# Altium footprint library Fuse.PcbLib: 123 footprints (part 8 of 8)
Each footprint in its own frame and in the unit in brackets; x right, y up, seen from the top. Pads: shape width x height; smd on the part's side, far side on the other; paste and mask are expansions set on the pad; w line width, h text height; cw(c..) or ccw(c..) is an arc to the next point about the centre after c.
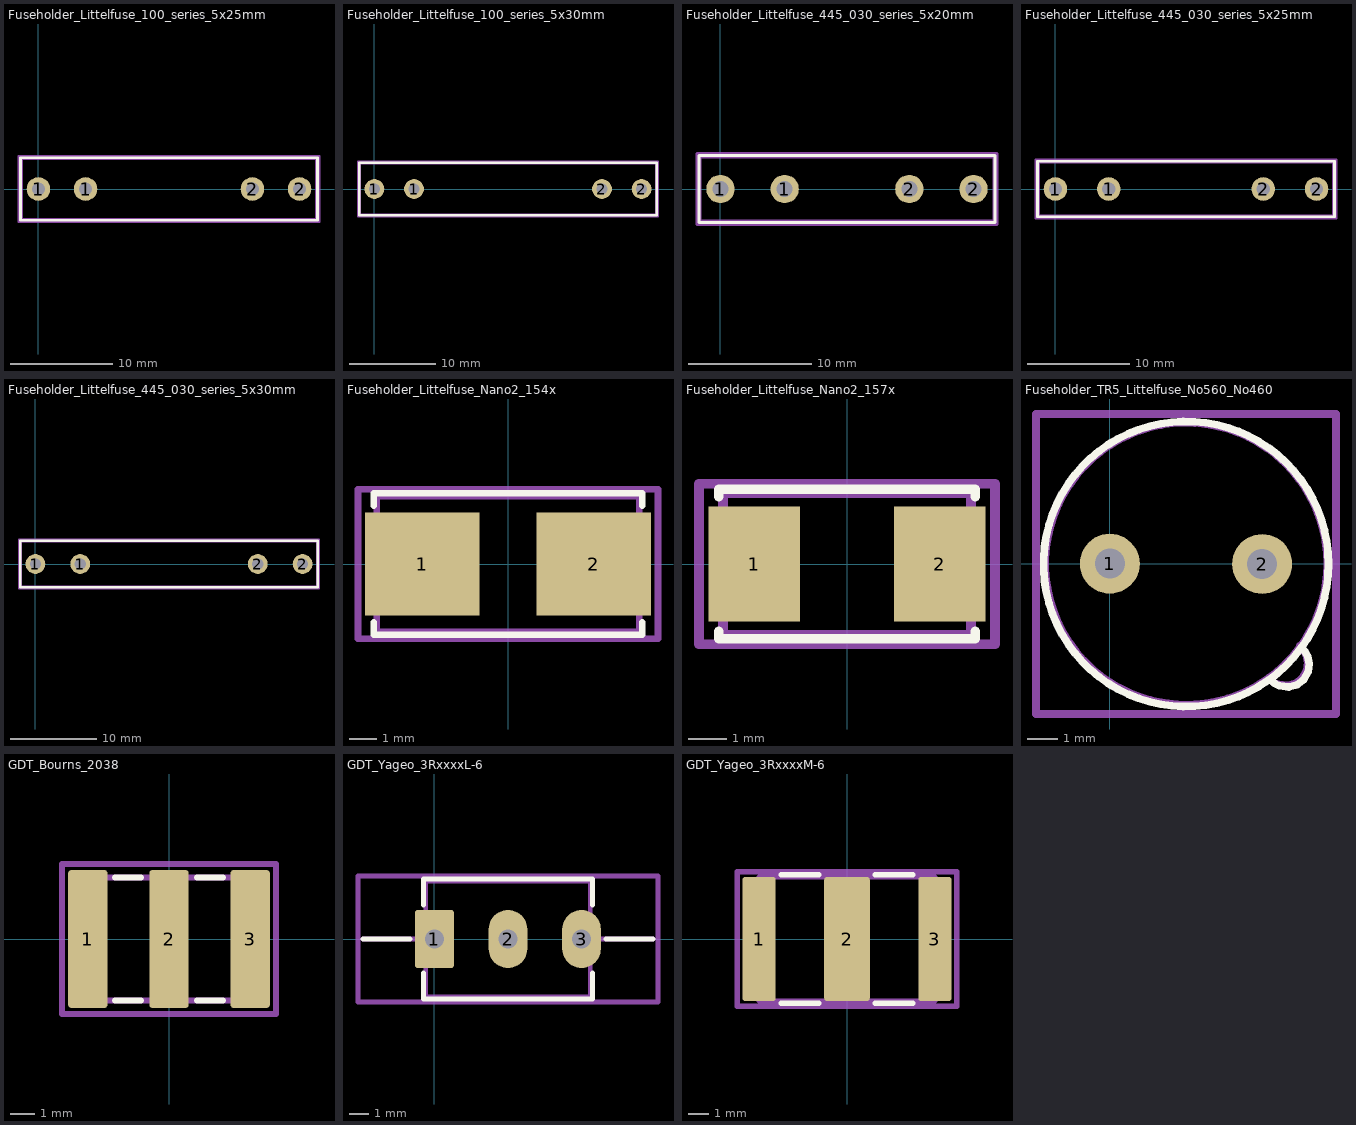
[diagram p7: the footprints below, top view; thin cyan lines are the x and y axes]

## Fuseholder_Littelfuse_100_series_5x25mm [mm]
pads (4):
  round 2.3 hole 1.3: 1(0,0) 1(4.6,0) 2(20.9,0) 2(25.5,0)
F.SilkS:
  lines w0.254: -1.75,-3.05 27.25,-3.05 27.25,3.05 -1.75,3.05 -1.75,-3.05
Top Assembly:
  lines w0.254: -1.65,-2.95 27.15,-2.95 27.15,2.95 -1.65,2.95 -1.65,-2.95
  text "'.Designator'" at 8.703,-0.84 h1
Top Courtyard:
  lines w0.254: -1.9,-3.2 27.4,-3.2 27.4,3.2 -1.9,3.2 -1.9,-3.2
Top Designator:
  text ".Designator" at 5.132,-0.508 h1.52

## Fuseholder_Littelfuse_100_series_5x30mm [mm]
pads (4):
  round 2.3 hole 1.3: 1(0,0) 1(4.6,0) 2(26.4,0) 2(31,0)
F.SilkS:
  lines w0.254: -1.75,-3.05 32.75,-3.05 32.75,3.05 -1.75,3.05 -1.75,-3.05
Top Assembly:
  lines w0.254: -1.65,-2.95 32.65,-2.95 32.65,2.95 -1.65,2.95 -1.65,-2.95
  text "'.Designator'" at 11.453,-0.84 h1
Top Courtyard:
  lines w0.254: -1.9,-3.2 32.9,-3.2 32.9,3.2 -1.9,3.2 -1.9,-3.2
Top Designator:
  text ".Designator" at 7.882,-0.508 h1.52

## Fuseholder_Littelfuse_445_030_series_5x20mm [mm]
pads (4):
  round 2.3 hole 1.3: 1(0,0) 1(5.2,0) 2(15.3,0) 2(20.5,0)
F.SilkS:
  lines w0.254: -1.75,-2.7 22.25,-2.7 22.25,2.7 -1.75,2.7 -1.75,-2.7
Top Assembly:
  lines w0.254: -1.65,-2.6 22.15,-2.6 22.15,2.6 -1.65,2.6 -1.65,-2.6
  text "'.Designator'" at 6.203,-0.84 h1
Top Courtyard:
  lines w0.254: -1.9,-2.85 22.4,-2.85 22.4,2.85 -1.9,2.85 -1.9,-2.85
Top Designator:
  text ".Designator" at 2.632,-0.508 h1.52

## Fuseholder_Littelfuse_445_030_series_5x25mm [mm]
pads (4):
  round 2.3 hole 1.3: 1(0,0) 1(5.2,0) 2(20.3,0) 2(25.5,0)
F.SilkS:
  lines w0.254: -1.75,-2.7 27.25,-2.7 27.25,2.7 -1.75,2.7 -1.75,-2.7
Top Assembly:
  lines w0.254: -1.65,-2.6 27.15,-2.6 27.15,2.6 -1.65,2.6 -1.65,-2.6
  text "'.Designator'" at 8.703,-0.84 h1
Top Courtyard:
  lines w0.254: -1.9,-2.85 27.4,-2.85 27.4,2.85 -1.9,2.85 -1.9,-2.85
Top Designator:
  text ".Designator" at 5.132,-0.508 h1.52

## Fuseholder_Littelfuse_445_030_series_5x30mm [mm]
pads (4):
  round 2.3 hole 1.3: 1(0,0) 1(5.2,0) 2(25.8,0) 2(31,0)
F.SilkS:
  lines w0.254: -1.75,-2.7 32.75,-2.7 32.75,2.7 -1.75,2.7 -1.75,-2.7
Top Assembly:
  lines w0.254: -1.65,-2.6 32.65,-2.6 32.65,2.6 -1.65,2.6 -1.65,-2.6
  text "'.Designator'" at 11.453,-0.84 h1
Top Courtyard:
  lines w0.254: -1.9,-2.85 32.9,-2.85 32.9,2.85 -1.9,2.85 -1.9,-2.85
Top Designator:
  text ".Designator" at 7.882,-0.508 h1.52

## Fuseholder_Littelfuse_Nano2_154x [mm]
pads (2):
  rect 4.24x3.81 smd: 1(-3.185,0) 2(3.185,0)
F.SilkS:
  lines w0.254: -4.975,-2.165 -4.975,-2.625 4.975,-2.625 4.975,-2.165 ; -4.975,2.165 -4.975,2.625 4.975,2.625 4.975,2.165
Top Assembly:
  lines w0.254: -4.865,-2.515 4.865,-2.515 4.865,2.515 -4.865,2.515 -4.865,-2.515
  text "'.Designator'" at -4.047,-0.84 h1
Top Courtyard:
  lines w0.254: -5.56,-2.77 5.56,-2.77 5.56,2.77 -5.56,2.77 -5.56,-2.77
Top Designator:
  text ".Designator" at -7.618,-0.508 h1.52

## Fuseholder_Littelfuse_Nano2_157x [mm]
pads (2):
  rect 2.4x3 smd: 1(-2.43,0) 2(2.43,0)
F.SilkS:
  lines w0.254: -3.36,-1.76 -3.36,-1.96 3.36,-1.96 3.36,-1.76 ; -3.36,1.76 -3.36,1.96 3.36,1.96 3.36,1.76
Top Assembly:
  lines w0.254: -3.25,-1.85 3.25,-1.85 3.25,1.85 -3.25,1.85 -3.25,-1.85
  text "'.Designator'" at -4.047,-0.84 h1
Top Courtyard:
  lines w0.254: -3.88,-2.1 3.88,-2.1 3.88,2.1 -3.88,2.1 -3.88,-2.1
Top Designator:
  text ".Designator" at -7.712,-0.508 h1.52

## Fuseholder_TR5_Littelfuse_No560_No460 [mm]
pads (2):
  round 2 hole 1: 1(0,0) 2(5.08,-0.01)
F.SilkS:
  circle w0.254: c2.54,-0.01 r4.75
  lines w0.254: 5.36,-3.84 5.49,-3.99 5.67,-4.07 5.96,-4.11 6.25,-4.03 6.47,-3.86 6.62,-3.6 6.65,-3.34 6.6,-3.09 6.51,-2.93 6.39,-2.79
Top Assembly:
  circle w0.254: c2.55,0 r4.7
  lines w0.254: 5.31,-3.79 5.44,-3.94 5.62,-4.02 5.91,-4.06 6.2,-3.98 6.42,-3.81 6.57,-3.55 6.6,-3.29 6.55,-3.04 6.46,-2.88 6.34,-2.74
  text "'.Designator'" at -1.297,1.91 h1
Top Courtyard:
  lines w0.254: -2.46,-5.01 7.54,-5.01 7.54,4.99 -2.46,4.99 -2.46,-5.01
Top Designator:
  text ".Designator" at -5.078,-0.518 h1.52

## GDT_Bourns_2038 [mm]
pads (3):
  rrect15% 1.6x5.6 smd: 1(-3.3,0) 2(0,0) 3(3.3,0)
F.SilkS:
  lines w0.254: -2.2,-2.5 -1.15,-2.5 ; -2.2,2.5 -1.15,2.5 ; 1.15,-2.5 2.2,-2.5 ; 1.15,2.5 2.2,2.5
Top Assembly:
  lines w0.254: -3.75,-2.5 3.75,-2.5 3.75,2.5 -3.75,2.5 -3.75,-2.5
  text "'.Designator'" at -4.047,-0.84 h1
Top Courtyard:
  lines w0.254: -4.35,-3.05 4.35,-3.05 4.35,3.05 -4.35,3.05 -4.35,-3.05
Top Designator:
  text ".Designator" at -7.618,-0.508 h1.52

## GDT_Yageo_3RxxxxL-6 [mm]
pads (3):
  rrect12% 2x3 hole 1: 1(0,0)
  rrect100% 2x3 hole 1: 2(3.8,0) 3(7.6,0)
F.SilkS:
  lines w0.254: -3.7,0 -1.26,0 ; -0.56,-1.76 -0.56,-3.11 8.16,-3.11 8.16,-1.76 ; -0.56,1.76 -0.56,3.11 8.16,3.11 8.16,1.76 ; 8.86,0 11.3,0
Top Assembly:
  lines w0.254: -3.7,0 -0.45,0 ; 8.05,0 11.3,0 ; -0.45,-3 8.05,-3 8.05,3 -0.45,3 -0.45,-3
  text "'.Designator'" at -0.247,-0.84 h1
Top Courtyard:
  lines w0.254: -3.95,-3.25 11.55,-3.25 11.55,3.25 -3.95,3.25 -3.95,-3.25
Top Designator:
  text ".Designator" at -3.818,-0.508 h1.52

## GDT_Yageo_3RxxxxM-6 [mm]
pads (3):
  rrect16% 1.6x6 smd: 1(-4.25,0) 3(4.25,0)
  rrect11% 2.2x6 smd: 2(0,0)
F.SilkS:
  lines w0.254: -3.19,-3.11 -1.36,-3.11 ; -3.19,3.11 -1.36,3.11 ; 1.36,-3.11 3.19,-3.11 ; 1.36,3.11 3.19,3.11
Top Assembly:
  lines w0.254: -4.25,-3 4.25,-3 4.25,3 -4.25,3 -4.25,-3
  text "'.Designator'" at -4.047,-0.84 h1
Top Courtyard:
  lines w0.254: -5.3,-3.25 5.3,-3.25 5.3,3.25 -5.3,3.25 -5.3,-3.25
Top Designator:
  text ".Designator" at -7.618,-0.508 h1.52